# EAGLE library part PIC32MX1XX/2XX-- (library BaseApp)
PIC32MX250F128D-I/PT http://www.digikey.com/product-detail/en/PIC32MX250F128D-I%2FPT/PIC32MX250F128D-I%2FPT-ND/3046589
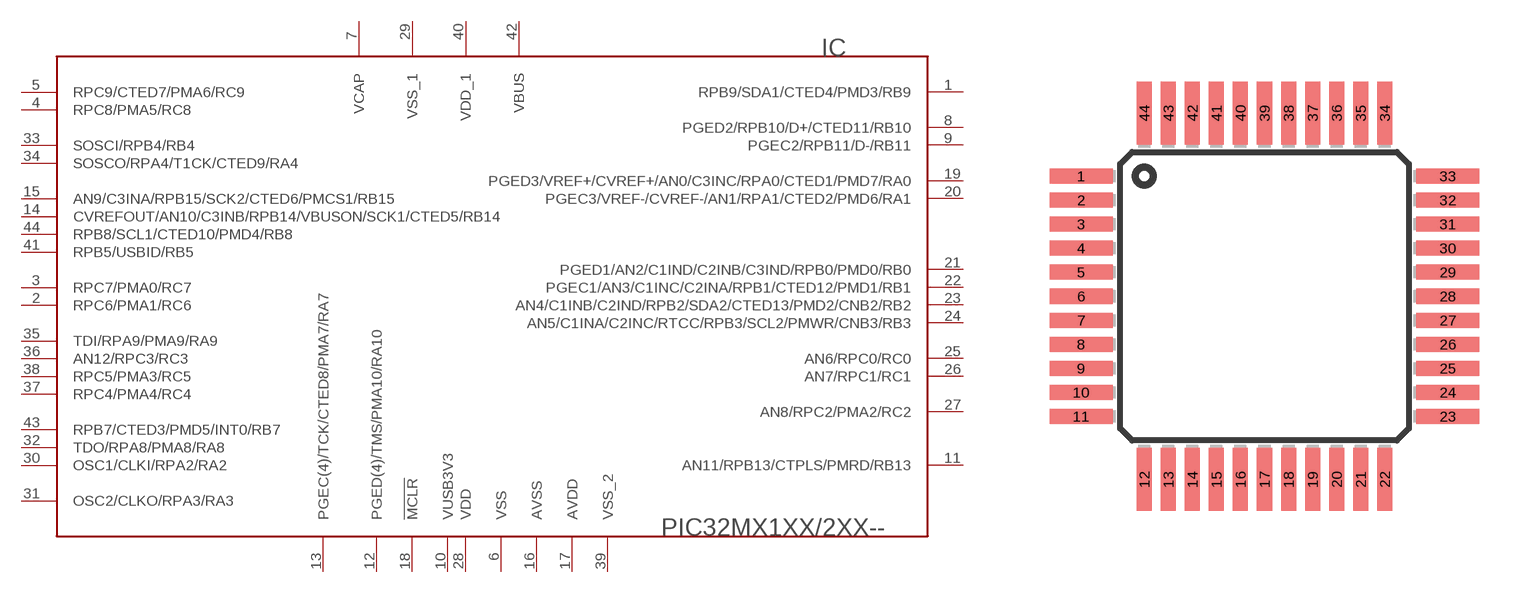
[diagram p29: symbol with the pads of 44TQFP; footprint 44TQFP]

Designator prefix IC

## PIC32MX1XX/2XX--"  [44TQFP]
1  RPB9/SDA1/CTED4/PMD3/RB9
2  RPC6/PMA1/RC6
3  RPC7/PMA0/RC7
4  RPC8/PMA5/RC8
5  RPC9/CTED7/PMA6/RC9
6  VSS
7  VCAP
8  PGED2/RPB10/D+/CTED11/RB10
9  PGEC2/RPB11/D-/RB11
10  VUSB3V3
11  AN11/RPB13/CTPLS/PMRD/RB13
12  PGED(4)/TMS/PMA10/RA10
13  PGEC(4)/TCK/CTED8/PMA7/RA7
14  CVREFOUT/AN10/C3INB/RPB14/VBUSON/SCK1/CTED5/RB14
15  AN9/C3INA/RPB15/SCK2/CTED6/PMCS1/RB15
16  AVSS
17  AVDD
18  !MCLR
19  PGED3/VREF+/CVREF+/AN0/C3INC/RPA0/CTED1/PMD7/RA0
20  PGEC3/VREF-/CVREF-/AN1/RPA1/CTED2/PMD6/RA1
21  PGED1/AN2/C1IND/C2INB/C3IND/RPB0/PMD0/RB0
22  PGEC1/AN3/C1INC/C2INA/RPB1/CTED12/PMD1/RB1
23  AN4/C1INB/C2IND/RPB2/SDA2/CTED13/PMD2/CNB2/RB2
24  AN5/C1INA/C2INC/RTCC/RPB3/SCL2/PMWR/CNB3/RB3
25  AN6/RPC0/RC0
26  AN7/RPC1/RC1
27  AN8/RPC2/PMA2/RC2
28  VDD
29  VSS_1
30  OSC1/CLKI/RPA2/RA2
31  OSC2/CLKO/RPA3/RA3
32  TDO/RPA8/PMA8/RA8
33  SOSCI/RPB4/RB4
34  SOSCO/RPA4/T1CK/CTED9/RA4
35  TDI/RPA9/PMA9/RA9
36  AN12/RPC3/RC3
37  RPC4/PMA4/RC4
38  RPC5/PMA3/RC5
39  VSS_2
40  VDD_1
41  RPB5/USBID/RB5
42  VBUS
43  RPB7/CTED3/PMD5/INT0/RB7
44  RPB8/SCL1/CTED10/PMD4/RB8

## Footprint 44TQFP (pad centres in mm)
smd 2.1 x 0.5: 1 -6.1,4; 2 -6.1,3.2; 3 -6.1,2.4; 4 -6.1,1.6; 5 -6.1,0.8; 6 -6.1,0; 7 -6.1,-0.8; 8 -6.1,-1.6; 9 -6.1,-2.4; 10 -6.1,-3.2; 11 -6.1,-4; 23 6.1,-4; 24 6.1,-3.2; 25 6.1,-2.4; 26 6.1,-1.6; 27 6.1,-0.8; 28 6.1,0; 29 6.1,0.8; 30 6.1,1.6; 31 6.1,2.4; 32 6.1,3.2; 33 6.1,4
smd 0.5 x 2.1: 12 -4,-6.1; 13 -3.2,-6.1; 14 -2.4,-6.1; 15 -1.6,-6.1; 16 -0.8,-6.1; 17 0,-6.1; 18 0.8,-6.1; 19 1.6,-6.1; 20 2.4,-6.1; 21 3.2,-6.1; 22 4,-6.1; 34 4,6.1; 35 3.2,6.1; 36 2.4,6.1; 37 1.6,6.1; 38 0.8,6.1; 39 0,6.1; 40 -0.8,6.1; 41 -1.6,6.1; 42 -2.4,6.1; 43 -3.2,6.1; 44 -4,6.1